# EAGLE library part M55-7012042R (library CONNECTORs)
Connector Header Surface Mount 20 position 0.050" (1.27mm)
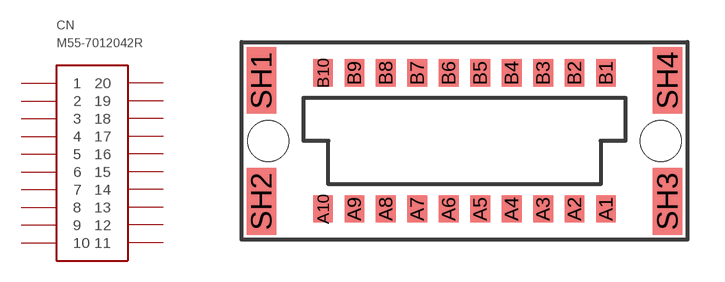
[diagram p55: symbol with the pads of M55-7012042R; footprint M55-7012042R]

Designator prefix CN

## M55-7012042R (DIGIKEY: 952-3877-1-ND; HEIGHT: 8.25; PRICE_PER: 0.99; VALUE: M55 20PIN MALE)  [M55-7012042R]
A1  1
A2  2
A3  3
A4  4
A5  5
A6  6
A7  7
A8  8
A9  9
A10  10
B1  20
B2  19
B3  18
B4  17
B5  16
B6  15
B7  14
B8  13
B9  12
B10  11

## Footprint M55-7012042R (pad centres in mm)
smd 0.8 x 1.1: A1 5.715,-2.75; A2 4.445,-2.75; A3 3.175,-2.75; A4 1.905,-2.75; A5 0.635,-2.75; A6 -0.635,-2.75; A7 -1.905,-2.75; A8 -3.175,-2.75; A9 -4.445,-2.75; A10 -5.715,-2.75; B1 5.715,2.75; B2 4.445,2.75; B3 3.175,2.75; B4 1.905,2.75; B5 0.635,2.75; B6 -0.635,2.75; B7 -1.905,2.75; B8 -3.175,2.75; B9 -4.445,2.75; B10 -5.715,2.75
smd 1.2 x 2.7: SH1 -8.2,2.45; SH2 -8.2,-2.45; SH3 8.2,-2.45; SH4 8.2,2.45
hole 1.65 at -7.925,0
hole 1.65 at 7.925,0